# Altium footprint library 172168-1.PcbLib: 1 footprints
Each footprint in its own frame and in the unit in brackets; x right, y up, seen from the top. Pads: shape width x height; smd on the part's side, far side on the other; paste and mask are expansions set on the pad; w line width, h text height; cw(c..) or ccw(c..) is an arc to the next point about the centre after c.
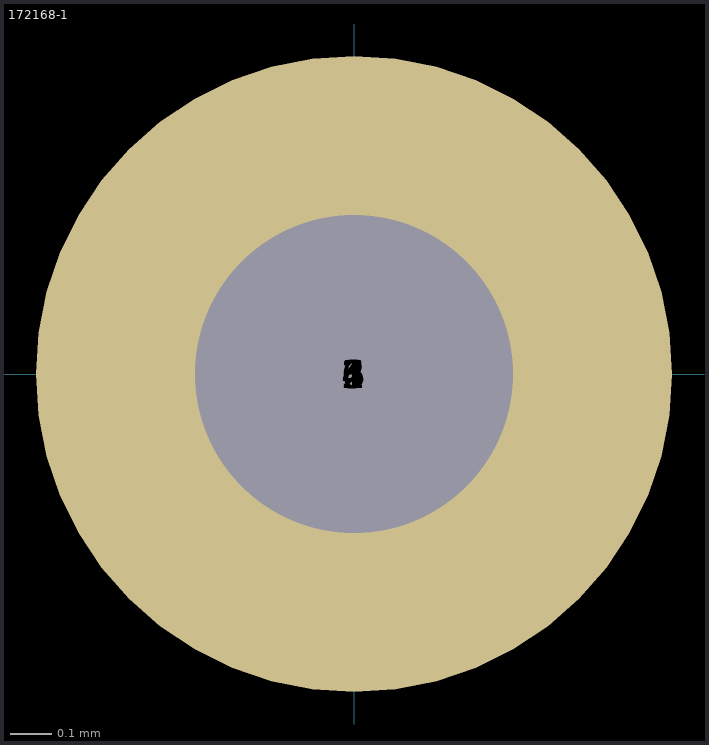
[diagram p0: the footprint, top view; thin cyan lines are the x and y axes]

## 172168-1 [mil]
pads (6):
  round 60 hole 30: 1(0,0) 2(0,0) 3(0,0) 4(0,0) 5(0,0) 6(0,0)
3D body "172168-1.stp": height 1000, standoff 66.93, extent -275.59,-346.46 295.2,232.28